# EAGLE library part DMMT3904W (library ZOMGTHEREMINBBQLOL)
Dual Matched NPN
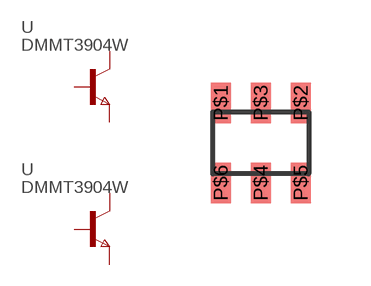
[diagram p3: symbol with the pads of SOT363; footprint SOT363]

Designator prefix -

## DMMT3904W  [SOT363]
P$1  B  pas
P$2  B1  pas
P$3  C  pas
P$4  E  pas
P$5  E1  pas
P$6  C1  pas

## Footprint SOT363 (pad centres in mm)
smd 0.508 x 1.016: P$1 -1,1; P$2 1,1; P$3 0,1; P$4 0,-1; P$5 1,-1; P$6 -1,-1